# EAGLE library part SM06B-SRSS-TB (library SM06B-SRSS-TB)
CONN HEADER SH 6POS SIDE 1MM TIN Check prices <https://snapeda.com/parts/SM06B-SRSS-TB/JST%20Sales/view-part/?ref=eda>
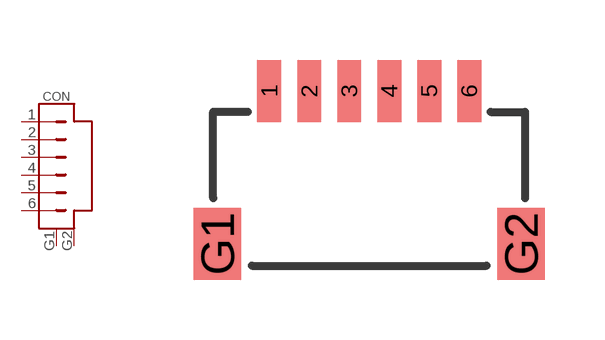
[diagram p0: symbol with the pads of SM06B; footprint SM06B]

Designator prefix CON

## SM06B-SRSS-TB (Availability: Bad; Description: Connector Header Surface Mount, Right Angle 6 position 0.039 (1.00mm); MF: JST Sales; MP: SM06B-SRSS-TB; Package: None; Price: None)  [SM06B]
1  1  pas
2  2  pas
3  3  pas
4  4  pas
5  5  pas
6  6  pas
G1  G1  pas
G2  G2  pas

## Footprint SM06B (pad centres in mm)
smd 0.6 x 1.55: 1 -2.5,2.275; 2 -1.5,2.275; 3 -0.5,2.275; 4 0.5,2.275; 5 1.5,2.275; 6 2.5,2.275
smd 1.2 x 1.8: G1 -3.8,-1.55; G2 3.8,-1.55